# EAGLE library part SR2512F-0206-19R0B-E9-N-W-159 (library SR2512F-0206-19R0B-E9-N-W-159)
Check availability <https://pricing.snapeda.com/parts/SR2512F-0206-19R0B-E9-N-W-159/Alpha%20%28Taiwan%29/view-part?ref=eda>
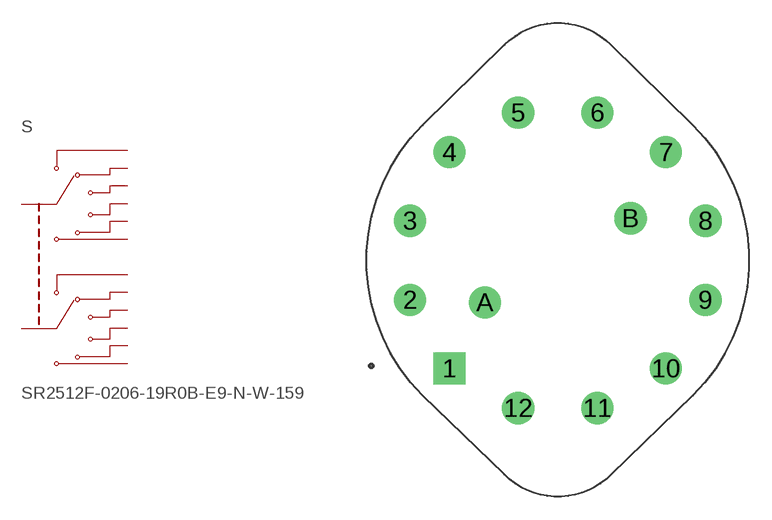
[diagram p0: symbol with the pads of SW_SR2512F-0206-19R0B-E9-N-W-159; footprint SW_SR2512F-0206-19R0B-E9-N-W-159]

Designator prefix S

## SR2512F-0206-19R0B-E9-N-W-159 (DESCRIPTION: Rotary Switches ROT 2POL 6POS NS PC; MFR: Alpha (Taiwan); MFR-PN: SR2512F-0206-19R0B-E9-N-W-159)  [SW_SR2512F-0206-19R0B-E9-N-W-159]
1  1  pas
2  2  pas
3  3  pas
4  4  pas
5  5  pas
6  6  pas
7  7  pas
8  8  pas
9  9  pas
10  10  pas
11  11  pas
12  12  pas
A  A  pas
B  B  pas

## Footprint SW_SR2512F-0206-19R0B-E9-N-W-159 (pad centres in mm)
drill 1.4 square: 1 -7.071,-7.071
drill 1.4: 2 -9.659,-2.588; 3 -9.659,2.588; 4 -7.071,7.071; 5 -2.588,9.659; 6 2.588,9.659; 7 7.071,7.071; 8 9.659,2.588; 9 9.659,-2.588; 10 7.071,-7.071; 11 2.588,-9.659; 12 -2.588,-9.659; A -4.763,-2.75; B 4.763,2.75